# Altium integrated library TPS75933KTTR.IntLib: 1 symbol
Pins are listed as number, name and electrical type; pins without a type are passive.

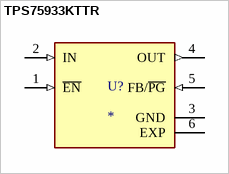
[diagram p0: symbol TPS75933KTTR]

## TPS75933KTTR
designator U?
7.5-A, ultra-low-dropout voltage regulator with power good & enable; MF: Texas Instruments; MP: TPS75933KTTR; SnapEDA_Link: https://www.snapeda.com/parts/TPS75933KTTR/Texas+Instruments/view-part/?ref=snap; Package: TO-263-5 Texas Instruments; Value: *; Check_prices: https://www.snapeda.com/parts/TPS75933KTTR/Texas+Instruments/view-part/?ref=eda
footprint VREG_TPS75933KTTR
pins: 1 ~{EN} (in), 2 IN (in), 3 GND (power), 4 OUT (out), 5 FB/~{PG} (in), 6 EXP (power)